# EAGLE library part MCP3208 (library marius)
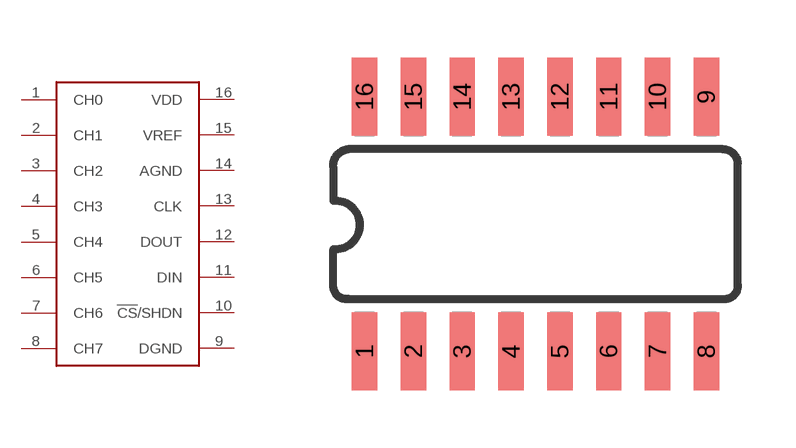
[diagram p7: symbol with the pads of SOIC-16; footprint SOIC-16]

Designator prefix -

## MCP3208  [SOIC-16]
1  CH0
2  CH1
3  CH2
4  CH3
5  CH4
6  CH5
7  CH6
8  CH7
9  DGND
10  !CS!/SHDN
11  DIN
12  DOUT
13  CLK
14  AGND
15  VREF
16  VDD

## Footprint SOIC-16 (pad centres in mm)
smd 0.66 x 2.032: 1 -4.51,-3.285; 2 -3.24,-3.285; 3 -1.97,-3.285; 4 -0.7,-3.285; 5 0.57,-3.285; 6 1.84,-3.285; 7 3.11,-3.285; 8 4.38,-3.285; 9 4.38,3.345; 10 3.11,3.345; 11 1.84,3.345; 12 0.57,3.345; 13 -0.7,3.345; 14 -1.97,3.345; 15 -3.24,3.345; 16 -4.51,3.345